# EAGLE library part SM05B-SRSS-TB(LF)(SN) (library SM05B-SRSS-TB_LF__SN_)
SH Series 5 Position 1 mm Pitch Surface Mount Side Entry Shrouded Header Check prices <https://pricing.snapeda.com/parts/SM05B-SRSS-TB%28LF%29%28SN%29/JST%20Sales/view-part?ref=eda>
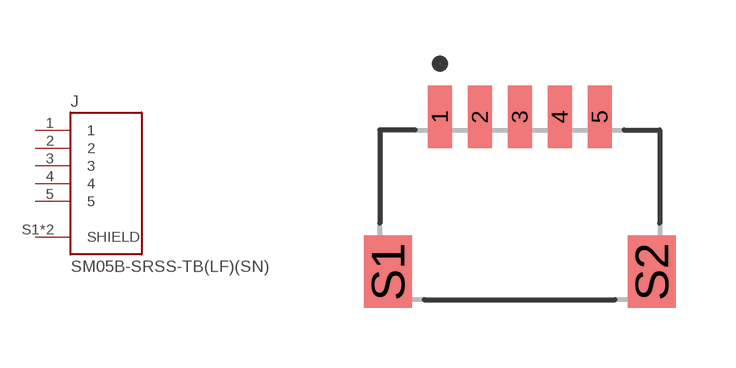
[diagram p0: symbol with the pads of JST_SM05B-SRSS-TB(LF)(SN); footprint JST_SM05B-SRSS-TB(LF)(SN)]

Designator prefix J

## SM05B-SRSS-TB(LF)(SN) (Availability: In Stock; Description: Connector Header Surface Mount, Right Angle 5 position 0.039 (1.00mm); MF: JST Sales; MP: SM05B-SRSS-TB(LF)(SN); Package: None; Price: None; Purchase-URL: https://pricing.snapeda.com/search/part/SM05B-SRSS-TB(LF)(SN)/?ref=eda)  [JST_SM05B-SRSS-TB(LF)(SN)]
1  1  pas
2  2  pas
3  3  pas
4  4  pas
5  5  pas
S1  SHIELD  pas
S2  SHIELD  pas

## Footprint JST_SM05B-SRSS-TB(LF)(SN) (pad centres in mm)
smd 0.6 x 1.55: 1 -2,3.875; 2 -1,3.875; 3 0,3.875; 4 1,3.875; 5 2,3.875
smd 1.2 x 1.8: S1 -3.3,0; S2 3.3,0